# Altium footprint library PcbLib_Left.PcbLib: 25 footprints (part 2 of 2)
Each footprint in its own frame and in the unit in brackets; x right, y up, seen from the top. Pads: shape width x height; smd on the part's side, far side on the other; paste and mask are expansions set on the pad; w line width, h text height; cw(c..) or ccw(c..) is an arc to the next point about the centre after c.
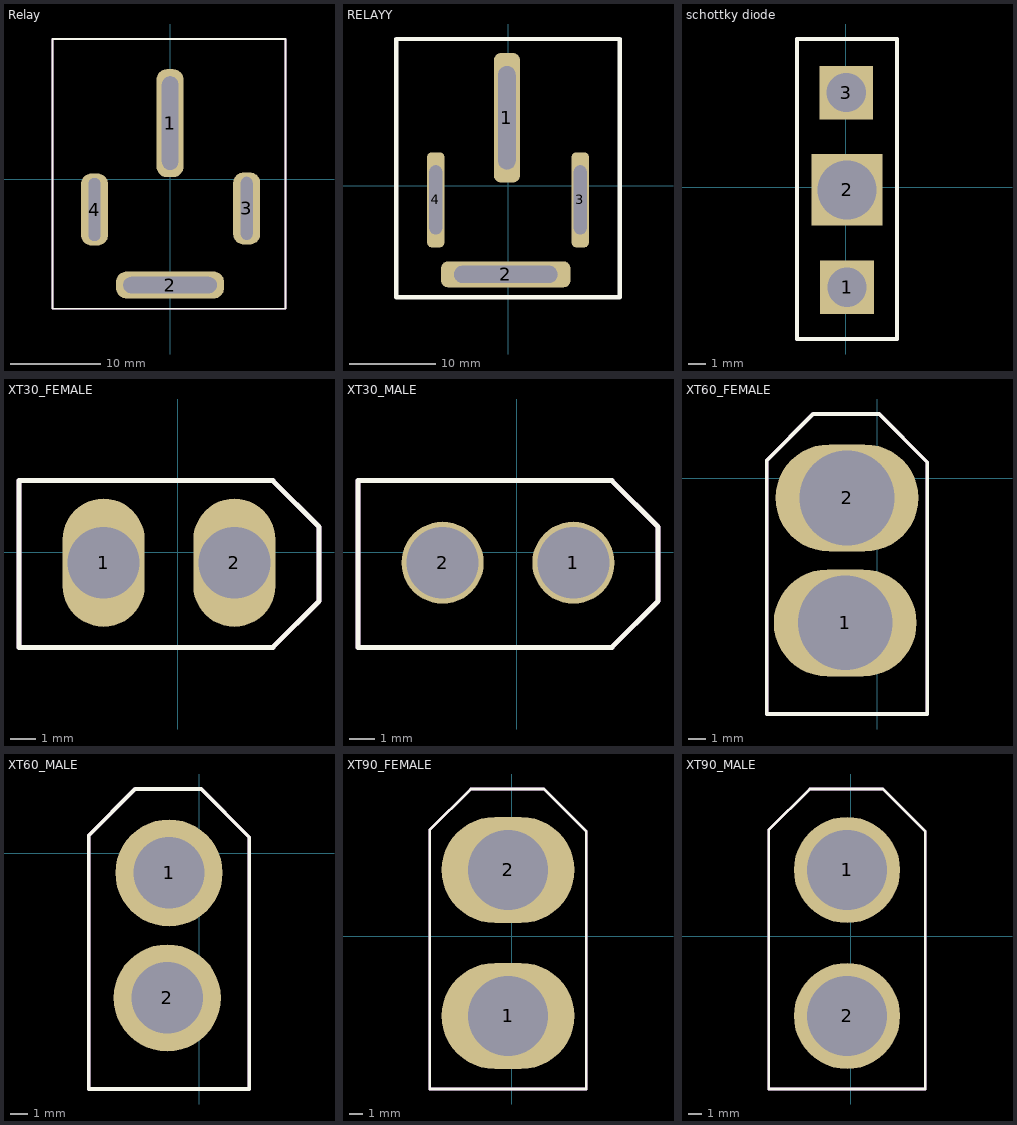
[diagram p1: the footprints below, top view; thin cyan lines are the x and y axes]

## Relay [mm]
pads (4):
  rrect75% 3x12 hole 1.8 slot 10.4 at 90 deg: 1(0,6.24)
  rrect75% 12x3 hole 1.8 slot 10.4 at 0 deg: 2(0,-11.76)
  rrect75% 3x8 hole 1.3 slot 7 at 90 deg: 3(8.52,-3.24) 4(-8.4,-3.36)
Top Overlay:
  lines w0.2: -13.08,-14.4 -13.08,15.6 12.84,15.6 12.84,-14.4 -13.08,-14.4
Mechanical 1:
  lines w0.2: -13.08,-14.4 12.84,-14.4 12.84,15.6 -13.08,15.6 -13.08,-14.4
Mechanical 29:
  text ".Designator" at -9.346,5 h2
3D body "c-1-1393304-1-s00f-3d.stp": height 40.91, standoff -16.99, extent -12.95,-14.39 12.95,15.51

## RELAYY [mm]
pads (4):
  rrect50% 3x15 hole 12 slot 2 at 0 deg: 1(-0.127,7.874)
  rrect50% 15x3 hole 12 slot 2 at 90 deg: 2(-0.254,-10.287)
  rrect50% 2x11 hole 8 slot 1.5 at 0 deg: 3(8.382,-1.651) 4(-8.382,-1.651)
Top Overlay:
  lines w0.5: -12.954,-12.954 12.954,-12.954 12.954,17.018 -12.954,17.018 -12.954,-12.954
3D body "c-1-1393304-1-s00f-3d.stp": height 40.91, standoff -16.99, extent -12.95,-12.95 12.95,16.95

## schottky diode [mm]
pads (3):
  rect 3x3 hole 2.2: 1(0.073,-5.6) 3(0.023,5.3)
  rect 4x4 hole 3.3: 2(0.073,-0.15)
Top Overlay:
  lines w0.2: -2.727,-8.5 -2.727,8.3 1.673,8.3 2.873,8.3 2.873,-8.5 -2.427,-8.5 -2.727,-8.5
Mechanical 29:
  lines w0.2: -2.727,-8.5 -2.727,8.3 2.873,8.3 2.873,-8.5 -2.727,-8.5
3D body "MBR6045PT.step": height 21.31, standoff -20.19, extent -2.457,-8.175 2.573,7.975

## XT30_FEMALE [mm]
pads (2):
  oval 3.2x5 hole 2.8: 1(-2.9,-0.4) 2(2.2,-0.4)
Top Overlay:
  lines w0.2: -6.2,-3.7 -6.2,2.8 3.7,2.8 5.5,1 5.5,-1.9 3.7,-3.7 3.4,-3.7 -6.2,-3.7
Mechanical 29:
  lines w0.2: 5.5,-1.9 3.7,-3.7 -6.2,-3.7 -6.2,2.8 3.7,2.8 5.5,1 5.5,-1.9 ; 5.5,-1.9 5.5,-1.9
3D body "XT30-F_m.ver.STEP": height 11.4, standoff -3.45, extent -5.79,-3.4 5.01,2.5

## XT30_MALE [mm]
pads (2):
  round 3.2 hole 2.8: 1(2.2,-0.4) 2(-2.9,-0.4)
Top Overlay:
  lines w0.2: -6.2,-3.7 -6.2,2.8 3.7,2.8 5.5,1 5.5,-1.9 3.7,-3.7 3.4,-3.7 -6.2,-3.7
Mechanical 29:
  lines w0.2: 5.5,-1.9 3.7,-3.7 -6.2,-3.7 -6.2,2.8 3.7,2.8 5.5,1 5.5,-1.9 ; 5.5,-1.9 5.5,-1.9
3D body "XB-PM2143-ATX30U-M.STP": height 10.91, standoff -2.99, extent -5.9,-3.3 5.1,2.5

## XT60_FEMALE [mm]
pads (2):
  oval 8x6 hole 5.3: 1(-1.8,-8.1) 2(-1.7,-1.1)
Top Overlay:
  lines w0.2: -6.2,-13.2 2.8,-13.2 2.8,0.9 0.1,3.6 -0.1,3.6 -3.4,3.6 -3.6,3.6 -6.2,1 -6.2,-13.2
Mechanical 29:
  lines w0.2: -6.2,-13.2 2.8,-13.2 2.8,0.9 0.1,3.6 -3.6,3.6 -6.2,1 -6.2,-13.2
3D body "XT60H-F v3.step": height 17, standoff -3.75, extent -6.3,-13.1 3,3.4

## XT60_MALE [mm]
pads (2):
  round 6 hole 4: 1(-1.7,-1.1) 2(-1.8,-8.1)
Top Overlay:
  lines w0.2: -6.2,-13.2 2.8,-13.2 2.8,0.9 0.1,3.6 -0.1,3.6 -3.4,3.6 -3.6,3.6 -6.2,1 -6.2,-13.2
Mechanical 29:
  lines w0.2: -6.2,-13.2 2.8,-13.2 2.8,0.9 0.1,3.6 -3.6,3.6 -6.2,1 -6.2,-13.2
3D body "XT60_Macho.STEP": height 16.1, standoff -4, extent -5.65,-12.65 2.25,3.25

## XT90_FEMALE [mm]
pads (2):
  oval 10x8 hole 6: 1(-0.3,-6) 2(-0.3,5)
Top Overlay:
  lines w0.2: -6.2,6.9 -6.2,8 ; -6.2,6.9 -6.2,-11.5 5.6,-11.5 5.6,7.9 2.4,11.1 -3.1,11.1 -6.2,8 ; -6.2,6.9 -6.2,8
Mechanical 29:
  lines w0.2: -6.2,-11.5 -6.2,8 -3.1,11.1 2.4,11.1 5.6,7.9 5.6,-11.5 -6.2,-11.5
3D body "XT90PB-F.step": height 20.1, standoff -2.7, extent -5.7,-11.25 5,10.15

## XT90_MALE [mm]
pads (2):
  round 8 hole 6: 1(-0.3,5) 2(-0.3,-6)
Top Overlay:
  lines w0.2: -6.2,6.9 -6.2,8 ; -6.2,6.9 -6.2,-11.5 5.6,-11.5 5.6,7.9 2.4,11.1 -3.1,11.1 -6.2,8 ; -6.2,6.9 -6.2,8
Mechanical 29:
  lines w0.2: -6.2,-11.5 5.6,-11.5 5.6,7.9 2.4,11.1 -3.1,11.1 -6.2,8 -6.2,-11.5
3D body "XT90H-M SBORKA PART.STEP": height 21.21, standoff -4.99, extent -5.718,-11.034 5.082,9.966